# EAGLE library part STMPE811 (library st)
STMPE811 S-Touch® advanced resistive touchscreen controller with 8-bit GPIO expander
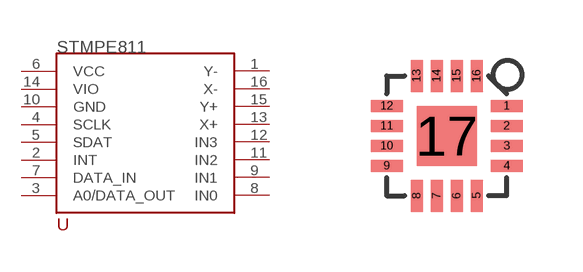
[diagram p3: symbol with the pads of QFN16; footprint QFN16]

Designator prefix -

## STMPE811  [QFN16]
1  Y-
2  INT
3  A0/DATA_OUT
4  SCLK
5  SDAT
6  VCC
7  DATA_IN
8  IN0
9  IN1
10  GND
11  IN2
12  IN3
13  X+
14  VIO
15  Y+
16  X-

## Footprint QFN16 (pad centres in mm)
QFN16
smd 0.8 x 0.3: 1 1.5,0.75; 2 1.5,0.25; 3 1.5,-0.25; 4 1.5,-0.75; 9 -1.5,-0.75; 10 -1.5,-0.25; 11 -1.5,0.25; 12 -1.5,0.75
smd 0.3 x 0.8: 5 0.75,-1.5; 6 0.25,-1.5; 7 -0.25,-1.5; 8 -0.75,-1.5; 13 -0.75,1.5; 14 -0.25,1.5; 15 0.25,1.5; 16 0.75,1.5
smd 1.5 x 1.5: 17 0,0